# Altium footprint library AMSTON_ZHIYUAN_BatFusion.PcbLib: 1 footprints
Each footprint in its own frame and in the unit in brackets; x right, y up, seen from the top. Pads: shape width x height; smd on the part's side, far side on the other; paste and mask are expansions set on the pad; w line width, h text height; cw(c..) or ccw(c..) is an arc to the next point about the centre after c.
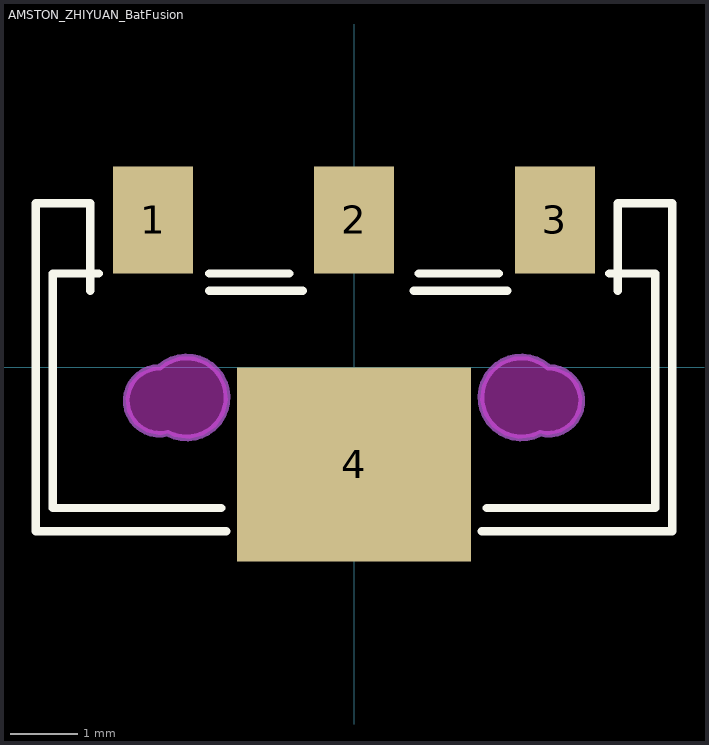
[diagram p0: the footprint, top view; thin cyan lines are the x and y axes]

## AMSTON_ZHIYUAN_BatFusion [mm]
pads (4):
  rect 1.2x1.6 smd: 1(-3,2.2) 2(0,2.2) 3(3,2.2)
  rect 3.5x2.9 smd: 4(0,-1.45)
Top Overlay:
  lines w0.126: -3.937,1.143 -3.937,2.45 -4.75,2.45 -4.75,-2.45 -1.905,-2.45 ; -3.81,1.4 -4.5,1.4 -4.5,-2.1 -1.981,-2.1 ; -2.159,1.143 -0.762,1.143 ; -2.159,1.4 -0.965,1.4 ; 0.889,1.143 2.286,1.143 ; 0.965,1.4 2.159,1.4 ; 1.905,-2.45 4.75,-2.45 4.75,2.45 3.937,2.45 3.937,1.143 ; 1.981,-2.1 4.5,-2.1 4.5,1.4 3.81,1.4
Keep-Out Layer:
  board cut-out: 2.781,-0.986 2.885,-1.011 3.096,-0.972 3.273,-0.85 3.384,-0.667 3.409,-0.453 3.345,-0.249 3.203,-0.088 3.007,0 2.9,0 2.9,0.004 2.817,0.077 2.61,0.155 2.388,0.155 2.181,0.076 2.015,-0.071 1.913,-0.268 1.886,-0.488 1.939,-0.703 2.065,-0.885 2.248,-1.011 2.463,-1.064 2.683,-1.037
  board cut-out: -2.781,-0.986 -2.885,-1.011 -3.096,-0.972 -3.273,-0.85 -3.384,-0.667 -3.409,-0.453 -3.345,-0.249 -3.203,-0.088 -3.007,0 -2.9,0 -2.9,0.004 -2.817,0.077 -2.61,0.155 -2.388,0.155 -2.181,0.076 -2.015,-0.071 -1.913,-0.268 -1.886,-0.488 -1.939,-0.703 -2.065,-0.885 -2.248,-1.011 -2.463,-1.064 -2.683,-1.037
Mechanical 4:
  lines w0.102: -2.9,0 ccw(c-2.9,-0.5) -2.781,-0.986 ccw(c-2.5,-0.45) -2.9,0.004 ; 2.9,0 cw(c2.9,-0.5) 2.781,-0.986 cw(c2.5,-0.45) 2.9,0.004